# EAGLE library part JST-EH-8 (library con-JST-EH)
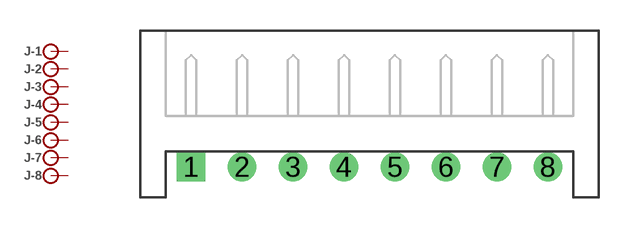
[diagram p0: symbol with the pads of S8B-EH; footprint S8B-EH]

Designator prefix J; gates -1=PIN -2=PIN -3=PIN -4=PIN -5=PIN -6=PIN -7=PIN -8=PIN

## JST-EH-8-THRA (MF: JST; MPN: S8B-EH)  [S8B-EH]
1  -1:P
2  -2:P
3  -3:P
4  -4:P
5  -5:P
6  -6:P
7  -7:P
8  -8:P

## Footprint S8B-EH (pad centres in mm)
drill 0.9 square: 1 -8.75,-1.5
drill 0.9: 2 -6.25,-1.5; 3 -3.75,-1.5; 4 -1.25,-1.5; 5 1.25,-1.5; 6 3.75,-1.5; 7 6.25,-1.5; 8 8.75,-1.5